# Altium schematic symbol library MLZ2012M100HT000.SchLib: 1 symbol
Pins are listed as number, name and electrical type; pins without a type are passive.

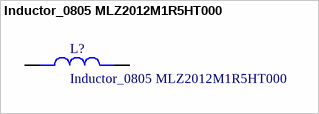
[diagram p0: symbol Inductor_0805 MLZ2012M1R5HT000]

## Inductor_0805 MLZ2012M1R5HT000
designator L?
10µH Shielded Multilayer Inductor 500mA 680mOhm 0805 (2012 Metric)MLZ2012M1R5HT000; MF: {'manufacturer': u'TDK Corporation'}; MP: MLZ2012M100HT000; Package: None; Price: None; Value: *; Availability: Unavailable
footprint INDC2012X145N
pins: 1, 2